# EAGLE library part LM339 (library IC_Linear)
Quad Comparators Reference Datasheet <https://www.ti.com/lit/ds/symlink/lm2901.pdf?ts=1637642838912&ref_url=https%253A%252F%252Fwww.ti.com%252Fproduct%252FLM2901>
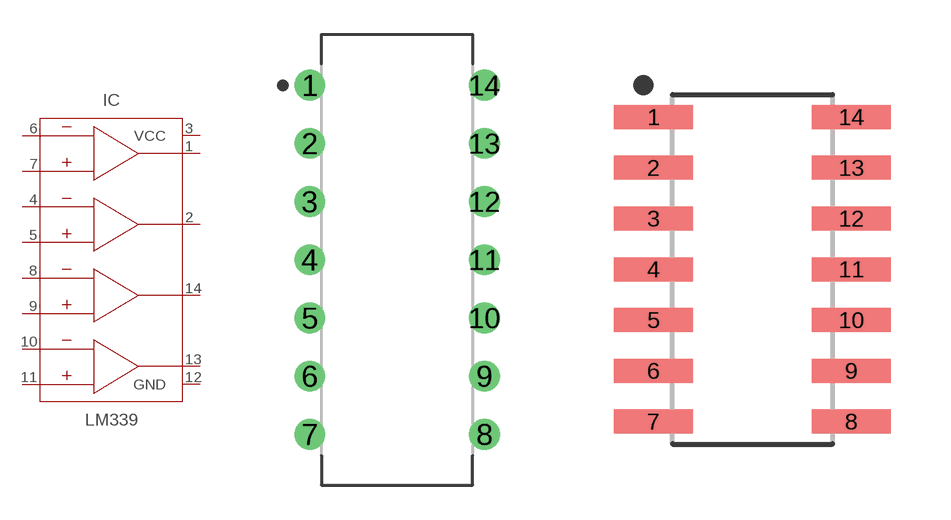
[diagram p25: symbol with the pads of DIP762W53P254L1969H508Q14B; footprints DIP762W53P254L1969H508Q14B, SOIC127P600X175-14N]

Designator prefix IC

## LM339_PDIP (CATEGORY: Analog Comparators; DESCRIPTION: Differential Quad Comparator; MANUFACTURER: Generic; MPN: Generic; SERIES: LM339; SUB-CATEGORY: Quad; TYPE: Analog Comparators; VALUE: LM339), LM339N_PDIP (CATEGORY: Analog Comparators; DESCRIPTION: IC QUAD DIFF COMPARATOR 14-DIP; MANUFACTURER: Texas Instruments; MPN: LM339N; OPERATING_TEMP: 0°C ~ 70°C; PART_STATUS: Active; ROHS_COMPLIANT: ROHS3 Compliant; SERIES: LM339; SUB-CATEGORY: Quad; TYPE: Analog Comparators; VALUE: LM339)  [DIP762W53P254L1969H508Q14B]
1  OUT1  out
2  OUT2  out
3  VCC
4  -IN2  in
5  +IN2  in
6  -IN1  in
7  +IN1  in
8  -IN3  in
9  +IN3  in
10  -IN4  in
11  +IN4  in
12  GND
13  OUT4  out
14  OUT3  out

## LM339_SOIC (CATEGORY: Analog Comparators; DESCRIPTION: Differential Quad Comparator; MANUFACTURER: Generic; MPN: Generic; SERIES: LM339; SUB-CATEGORY: Comparator; TYPE: Quad; VALUE: LM339), LM339D_SOIC (CATEGORY: Analog Comparators; DESCRIPTION: IC QUAD DIFF COMP 14-SOIC; MANUFACTURER: Texas Instruments; MPN: LM339D; OPERATING_TEMP: 0°C ~ 70°C; PART_STATUS: Active; ROHS_COMPLIANT: ROHS3 Compliant; SERIES: LM339; SUB-CATEGORY: Comparator; TYPE: Quad; VALUE: LM339)  [SOIC127P600X175-14N]
Pads as for DIP762W53P254L1969H508Q14B

## Footprint DIP762W53P254L1969H508Q14B (pad centres in mm)
14-DIP, 2.54 mm (0.10 in) pitch, 7.62 mm (0.30 in) span, 19.69 X 6.35 X 5.08 mm body 14-pin DIP package with 2.54 mm (0.10 in) pitch, 7.62 mm (0.30 in) span with body size 19.69 X 6.35 X 5.08 mm
drill 0.743 pad 1.343: 1 -3.81,7.62; 2 -3.81,5.08; 3 -3.81,2.54; 4 -3.81,0; 5 -3.81,-2.54; 6 -3.81,-5.08; 7 -3.81,-7.62; 8 3.81,-7.62; 9 3.81,-5.08; 10 3.81,-2.54; 11 3.81,0; 12 3.81,2.54; 13 3.81,5.08; 14 3.81,7.62

## Footprint SOIC127P600X175-14N (pad centres in mm)
14-SOIC, 1.27 mm pitch, 6.00 mm span, 8.65 X 3.90 X 1.75 mm body 14-pin SOIC package with 1.27 mm pitch, 6.00 mm span with body size 8.65 X 3.90 X 1.75 mm
smd 1.968 x 0.599: 1 -2.473,3.81; 2 -2.473,2.54; 3 -2.473,1.27; 4 -2.473,0; 5 -2.473,-1.27; 6 -2.473,-2.54; 7 -2.473,-3.81; 8 2.473,-3.81; 9 2.473,-2.54; 10 2.473,-1.27; 11 2.473,0; 12 2.473,1.27; 13 2.473,2.54; 14 2.473,3.81